# Altium schematic symbol library N0604N-S19-AY.SchLib: 2 symbols
Pins are listed as number, name and electrical type; pins without a type are passive.

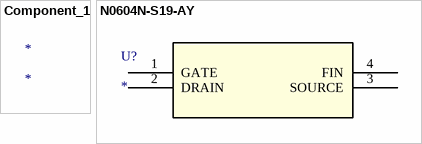
[diagram p0: symbols Component_1 to N0604N-S19-AY]

## Component_1
designator *

## N0604N-S19-AY
designator U?
No Description Available; Mfr_Name: Renesas Electronics; RefDes: RefDes; Type: Type
footprint TO-220_REN
pins: 1 GATE, 2 DRAIN, 3 SOURCE, 4 FIN